# Altium schematic symbol library INA828ID.SchLib: 1 symbol
Pins are listed as number, name and electrical type; pins without a type are passive.

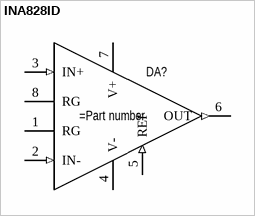
[diagram p0: symbol INA828ID]

## INA828ID
designator DA?
Low-Power, Precision Instrumentation Amplifier
pins: 1 RG, 2 IN- (in), 3 IN+ (in), 4 V- (power), 5 REF (in), 6 OUT (out), 7 V+ (power), 8 RG